# Altium schematic symbol library RUMBA_library.SCHLIB: 64 symbols
Pins are listed as number, name and electrical type; pins without a type are passive.

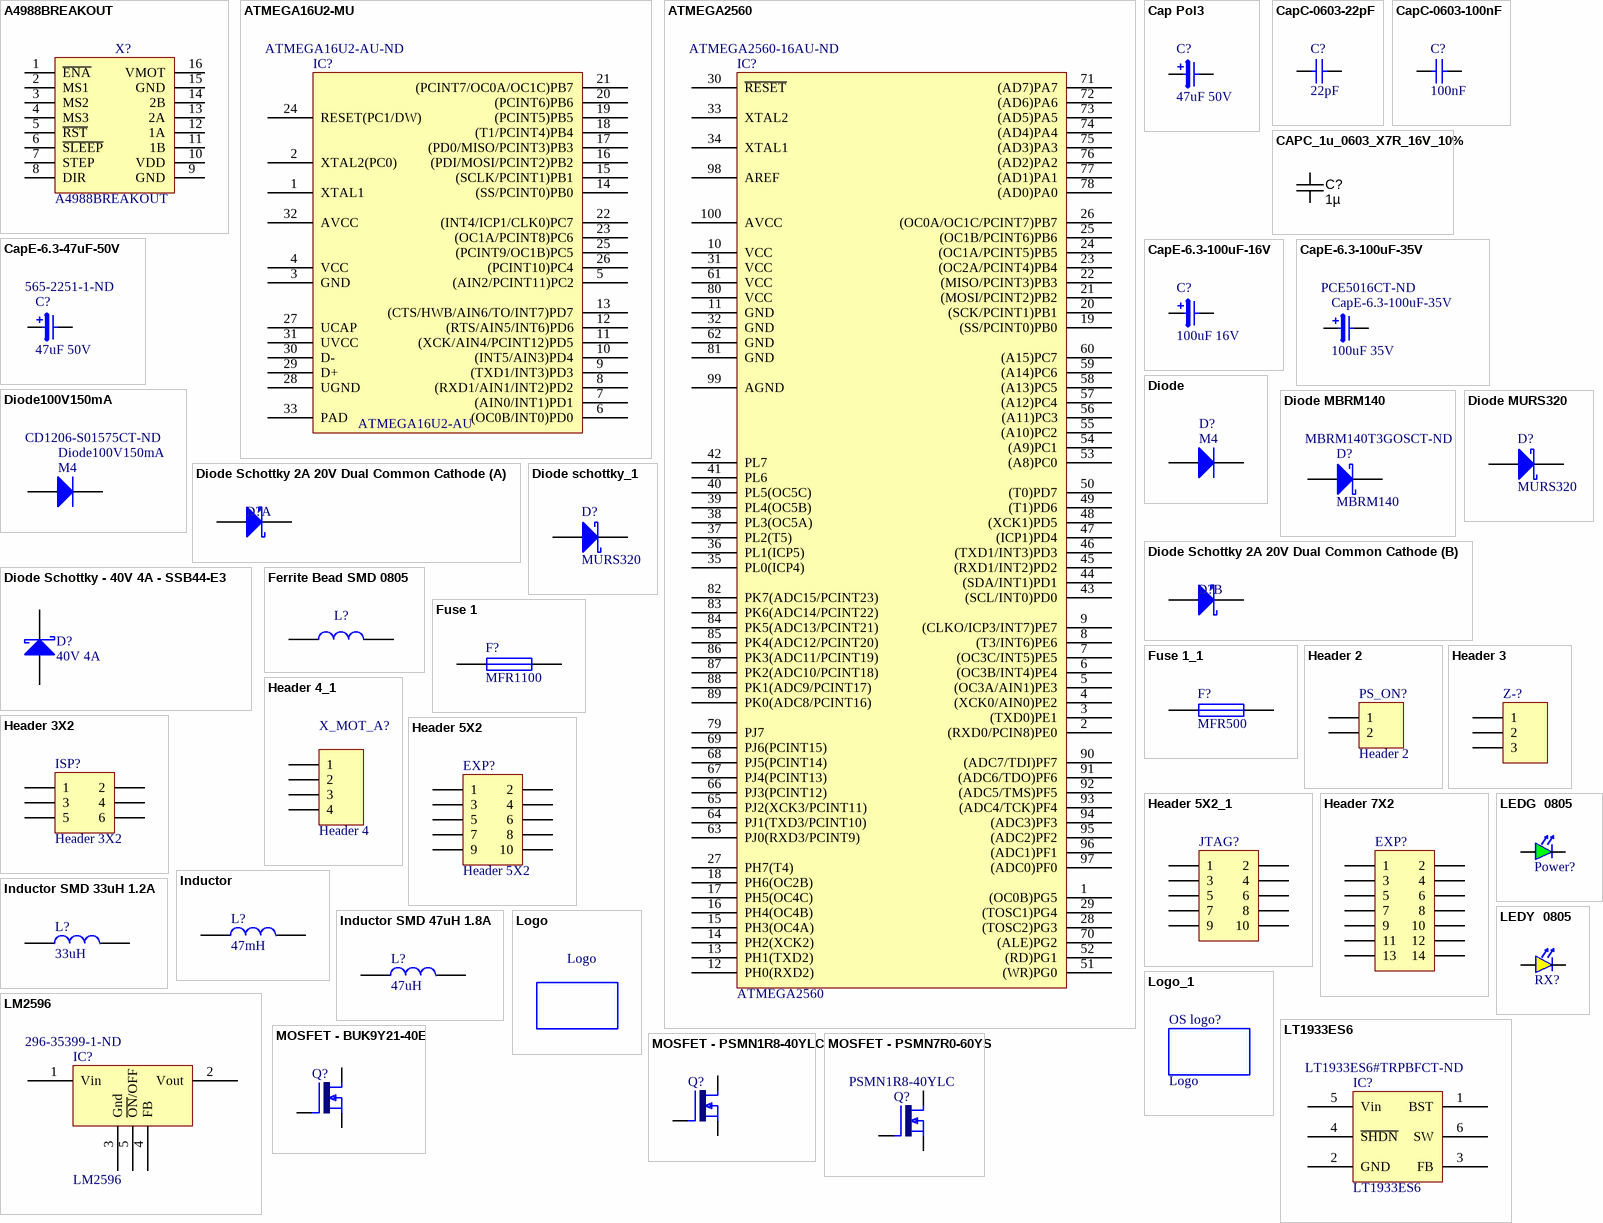
[diagram p0: symbols A4988BREAKOUT to MOSFET - PSMN7R0-60YS]

## A4988BREAKOUT
designator X?
Supplier 1: Digi-Key; Supplier Part Number 1: S7006-ND
footprint A4988BREAKOUT
pins: 1 ~{ENA}, 2 MS1, 3 MS2, 4 MS3, 5 ~{RST}, 6 ~{SLEEP}, 7 STEP, 8 DIR, 9 GND, 10 VDD, 11 1B, 12 1A, 13 2A, 14 2B, 15 GND, 16 VMOT

## ATMEGA16U2-MU
designator IC?, comment ATMEGA16U2-AU  Supplier Part Number 1: ATMEGA16U2-AU-ND
High Performance, Low Power USB2.0 AVR® 8-Bit Microcontroller; Supplier 1: Digi-Key
footprint TQFP32N (TQFP, 32-Leads, Body 9.0x9.0mm (max), Pitch 0.80mm, IPC Medium Density)
pins: 1 XTAL1, 2 XTAL2(PC0), 3 GND, 4 VCC, 5 (AIN2/PCINT11)PC2, 6 (OC0B/INT0)PD0, 7 (AIN0/INT1)PD1, 8 (RXD1/AIN1/INT2)PD2, 9 (TXD1/INT3)PD3, 10 (INT5/AIN3)PD4, 11 (XCK/AIN4/PCINT12)PD5, 12 (RTS/AIN5/INT6)PD6, 13 (CTS/HWB/AIN6/TO/INT7)PD7, 14 (SS/PCINT0)PB0, 15 (SCLK/PCINT1)PB1, 16 (PDI/MOSI/PCINT2)PB2, 17 (PD0/MISO/PCINT3)PB3, 18 (T1/PCINT4)PB4, 19 (PCINT5)PB5, 20 (PCINT6)PB6, 21 (PCINT7/OC0A/OC1C)PB7, 22 (INT4/ICP1/CLK0)PC7, 23 (OC1A/PCINT8)PC6, 24 RESET(PC1/DW), 25 (PCINT9/OC1B)PC5, 26 (PCINT10)PC4, 27 UCAP, 28 UGND, 29 D+, 30 D-, 31 UVCC, 32 AVCC, 33 PAD

## ATMEGA2560
designator IC?  Supplier Part Number 1: ATMEGA2560-16AU-ND
The high-performance, low-power Atmel 8-bit AVR RISC-based microcontroller; Supplier 1: Digi-Key
footprint TQFP100N (TQFP, 100-Leads, Body 16.3x16.3mm (max), Pitch 0.50mm, IPC Medium Density)
pins: 1 (OC0B)PG5, 2 (RXD0/PCIN8)PE0, 3 (TXD0)PE1, 4 (XCK0/AIN0)PE2, 5 (OC3A/AIN1)PE3, 6 (OC3B/INT4)PE4, 7 (OC3C/INT5)PE5, 8 (T3/INT6)PE6, 9 (CLKO/ICP3/INT7)PE7, 10 VCC, 11 GND, 12 PH0(RXD2), 13 PH1(TXD2), 14 PH2(XCK2), 15 PH3(OC4A), 16 PH4(OC4B), 17 PH5(OC4C), 18 PH6(OC2B), 19 (SS/PCINT0)PB0, 20 (SCK/PCINT1)PB1, 21 (MOSI/PCINT2)PB2, 22 (MISO/PCINT3)PB3, 23 (OC2A/PCINT4)PB4, 24 (OC1A/PCINT5)PB5, 25 (OC1B/PCINT6)PB6, 26 (OC0A/OC1C/PCINT7)PB7, 27 PH7(T4), 28 (TOSC2)PG3, 29 (TOSC1)PG4, 30 ~{RESET}, 31 VCC, 32 GND, 33 XTAL2, 34 XTAL1, 35 PL0(ICP4), 36 PL1(ICP5), 37 PL2(T5), 38 PL3(OC5A), 39 PL4(OC5B), 40 PL5(OC5C), 41 PL6, 42 PL7, 43 (SCL/INT0)PD0, 44 (SDA/INT1)PD1, 45 (RXD1/INT2)PD2, 46 (TXD1/INT3)PD3, 47 (ICP1)PD4, 48 (XCK1)PD5, 49 (T1)PD6, 50 (T0)PD7, 51 (WR)PG0, 52 (RD)PG1, 53 (A8)PC0, 54 (A9)PC1, 55 (A10)PC2, 56 (A11)PC3, 57 (A12)PC4, 58 (A13)PC5, 59 (A14)PC6, 60 (A15)PC7, 61 VCC, 62 GND, 63 PJ0(RXD3/PCINT9), 64 PJ1(TXD3/PCINT10), 65 PJ2(XCK3/PCINT11), 66 PJ3(PCINT12), 67 PJ4(PCINT13), 68 PJ5(PCINT14), 69 PJ6(PCINT15), 70 (ALE)PG2, 71 (AD7)PA7, 72 (AD6)PA6, 73 (AD5)PA5, 74 (AD4)PA4, 75 (AD3)PA3, 76 (AD2)PA2, 77 (AD1)PA1, 78 (AD0)PA0, 79 PJ7, 80 VCC, 81 GND, 82 PK7(ADC15/PCINT23), 83 PK6(ADC14/PCINT22), 84 PK5(ADC13/PCINT21), 85 PK4(ADC12/PCINT20), 86 PK3(ADC11/PCINT19), 87 PK2(ADC10/PCINT18), 88 PK1(ADC9/PCINT17), 89 PK0(ADC8/PCINT16), 90 (ADC7/TDI)PF7, 91 (ADC6/TDO)PF6, 92 (ADC5/TMS)PF5, 93 (ADC4/TCK)PF4, 94 (ADC3)PF3, 95 (ADC2)PF2, 96 (ADC1)PF1, 97 (ADC0)PF0, 98 AREF, 99 AGND, 100 AVCC

## Cap Pol3
designator C?  value 47uF 50V  (hidden comment: Cap Pol3)
Polarized Capacitor (Surface Mount); Published: 8-Jun-2000; Revision: July-2002: Re-released for DXP Platform.; Publisher: Altium Limited
footprint CC2012-0805 (Chip Capacitor; Body 2.0 x 1.2 mm (LxW typ))
simulation model CAP (Capacitor)
signal-integrity model Cap Pol
footprint CC4532-1812
footprint CC4564-1825
footprint CC5750-2220
footprint CC5664-2225
footprint CAP EL PANASONIC
pins: 1, 2

## CapC-0603-22pF
designator C?  value 22pF  (hidden comment: CapC-0603-22pF)
Capacitor (Semiconductor SIM Model); Published: 8-Jun-2000; Revision: July-2002: Re-released for DXP Platform.; Publisher: Altium Limited; Supplier 1: Digi-Key; Supplier Part Number 1: 478-6204-1-ND
simulation model CAP (Semiconductor Capacitor)
signal-integrity model Cap Semi
footprint Cap 1608-0603
footprint Cap2012-0805
footprint Cap3216-1206
footprint Cap3225-1210
pins: 1, 2

## CapC-0603-100nF
designator C?  value 100nF  (hidden comment: CapC-0603-100nF)
Capacitor (Semiconductor SIM Model); Published: 8-Jun-2000; Revision: July-2002: Re-released for DXP Platform.; Publisher: Altium Limited; Supplier 1: Digi-Key; Supplier Part Number 1: 311-1344-1-ND
simulation model CAP (Semiconductor Capacitor)
signal-integrity model Cap Semi
footprint Cap 1608-0603
footprint Cap2012-0805
footprint Cap3216-1206
footprint Cap3225-1210
pins: 1, 2

## CAPC_1u_0603_X7R_16V_10%
designator C?, comment value 1µ  (hidden comment: approved sub OK)
Capacitor SMD Cer 1uF 10% 16V X7R 0603; Manufacturer 1: TDK Corporation; Manufacturer Part Number 1: C1608X7R1C105K; Ratings: 16V; X7R; Material: ceramic; SCDType: spec; Package / Case: 0603 (1608 metric); Tolerance: ±10%; Supplier 1: Digi-Key; Supplier Part Number 1: 445-1604-1-ND; ComponentLink1URL: http://product.tdk.com/capacitor/mlcc/en/documents/mlcc_commercial_general_en.pdf; ComponentLink1Description: http://product.tdk.com/capacitor/mlcc/en/documents/mlcc_commercial_general_en.pdf
footprint CAPC1608X90N (Chip Capacitor, Body 1.6x0.8mm, 0603, IPC Medium Density)
footprint Cap 1608-0603
pins: 1, 2

## CapE-6.3-47uF-50V
designator C?  value 47uF 50V  Supplier Part Number 1: 565-2251-1-ND  (hidden comment: CapE-6.3-47uF-50V)
Polarized Capacitor (Surface Mount); Published: 8-Jun-2000; Revision: July-2002: Re-released for DXP Platform.; Publisher: Altium Limited; Supplier 1: Digi-Key
footprint CC2012-0805 (Chip Capacitor; Body 2.0 x 1.2 mm (LxW typ))
simulation model CAP (Capacitor)
signal-integrity model Cap Pol
footprint CC4532-1812
footprint CC4564-1825
footprint CC5750-2220
footprint CC5664-2225
footprint CAP EL PANASONIC
pins: 1, 2

## CapE-6.3-100uF-16V
designator C?  value 100uF 16V  (hidden comment: CapE-6.3-100uF-16V)
Polarized Capacitor (Surface Mount); Published: 8-Jun-2000; Revision: July-2002: Re-released for DXP Platform.; Publisher: Altium Limited; Supplier 1: Digi-Key; Supplier Part Number 1: 565-2204-1-ND
footprint CC2012-0805 (Chip Capacitor; Body 2.0 x 1.2 mm (LxW typ))
simulation model CAP (Capacitor)
signal-integrity model Cap Pol
footprint CC4532-1812
footprint CC4564-1825
footprint CC5750-2220
footprint CC5664-2225
footprint CAP EL PANASONIC
pins: 1, 2

## CapE-6.3-100uF-35V
designator CapE-6.3-100uF-35V  value 100uF 35V  Supplier Part Number 1: PCE5016CT-ND  (hidden comment: CapE-6.3-100uF-35V)
Polarized Capacitor (Surface Mount); Published: 8-Jun-2000; Revision: July-2002: Re-released for DXP Platform.; Publisher: Altium Limited; Supplier 1: Digi-Key
footprint CC2012-0805 (Chip Capacitor; Body 2.0 x 1.2 mm (LxW typ))
simulation model CAP (Capacitor)
signal-integrity model Cap Pol
footprint CC4532-1812
footprint CC4564-1825
footprint CC5750-2220
footprint CC5664-2225
footprint CAP EL PANASONIC
pins: 1, 2

## Diode
designator D?, comment M4
Default Diode; Code - JEDEC: DO-214-AB; Published: 8-Jun-2000; Revision: July-2002: Re-released for DXP Platform.; Publisher: Altium Limited; Supplier 1: Digi-Key; Supplier Part Number 1: S1GFSCT-ND
footprint DSO-C2/X3.3 (DO-214-AB/SMC; 2 C-Bend Leads; Body 7.9 x 5.9 mm, inc. leads (LxW))
simulation model DIODE (Diode)
signal-integrity model Diode
footprint DIODA10M
footprint 1N4148 SMD (MELF Diode, 2-Leads, Body 3.5x1.7mm, IPC Medium Density)
footprint Diode SMB
footprint 1n4007 SMD
pins: 1 A, 2 K

## Diode100V150mA
designator Diode100V150mA, comment M4  Supplier Part Number 1: CD1206-S01575CT-ND
Default Diode; Code - JEDEC: DO-214-AB; Published: 8-Jun-2000; Revision: July-2002: Re-released for DXP Platform.; Publisher: Altium Limited; Supplier 1: Digi-Key
footprint DSO-C2/X3.3 (DO-214-AB/SMC; 2 C-Bend Leads; Body 7.9 x 5.9 mm, inc. leads (LxW))
simulation model DIODE (Diode)
signal-integrity model Diode
footprint DIODA10M
footprint 1N4148 SMD (MELF Diode, 2-Leads, Body 3.5x1.7mm, IPC Medium Density)
footprint Diode SMB
footprint 1n4007 SMD
pins: 1 A, 2 K

## Diode MBRM140
designator D?  value MBRM140  Supplier Part Number 1: MBRM140T3GOSCT-ND  (hidden comment: Diode MBRM140)
Default Diode; Code - JEDEC: DO-214-AB; Published: 8-Jun-2000; Revision: July-2002: Re-released for DXP Platform.; Publisher: Altium Limited; Supplier 1: Digi-Key
simulation model DIODE (Diode)
signal-integrity model Diode
footprint DIODA10M
footprint US1J
footprint MBRM140
pins: 1 A, 2 K

## Diode MURS320
designator D?  value MURS320  (hidden comment: Diode MURS320)
Default Diode; Code - JEDEC: DO-214-AB; Published: 8-Jun-2000; Revision: July-2002: Re-released for DXP Platform.; Publisher: Altium Limited; Supplier 1: Digi-Key; Supplier Part Number 1: MURS320-13FDICT-ND
simulation model DIODE (Diode)
signal-integrity model Diode
footprint DIODA10M
footprint US1J
footprint MBRM140
pins: 1 A, 2 K

## Diode Schottky 2A 20V Dual Common Cathode
designator D?  (value not drawn)
Default Diode; Code - JEDEC: DO-214-AB; VALUE: PMEG2020CPA,115; Published: 8-Jun-2000; Revision: July-2002: Re-released for DXP Platform.; Publisher: Altium Limited; Supplier 1: Digi-Key; Supplier Part Number 1: 1727-5194-1-ND
simulation model DIODE (Diode)
signal-integrity model Diode
footprint SOT1061
part A pins: 1 A, 3 K
part B pins: 2 A, 3 K

## Diode Schottky - 40V 4A - SSB44-E3
designator D?, comment value 40V 4A  (hidden comment: Diode SSB44-E3)
Schottky Diode; Code - JEDEC: DO-214-AA; Note: Approved sub OK; Published: 8-Jun-2000; Revision: July-2002: Re-released for DXP Platform.; Publisher: Altium Limited; Supplier 1: Digi-Key; Supplier Part Number 1: SSB44-E3/52TGICT-ND
footprint DO-214AA (JEDEC DO214 variation AA. SMB)
pins: A, K

## Diode schottky_1
designator D?, comment MURS320
Default Diode; Code - JEDEC: DO-214-AB; Published: 8-Jun-2000; Revision: July-2002: Re-released for DXP Platform.; Publisher: Altium Limited
simulation model DIODE (Diode)
signal-integrity model Diode
footprint DIODA10M
footprint MURS320 (Molded Diode, 2-Leads, Body 6.8x5.8mm, IPC Medium Density)
footprint MBRM140
pins: 1 A, 2 K

## Ferrite Bead SMD 0805
designator L?  (value not drawn)
MagneticCore Inductor with Winding Polarity Marking; Value: WE-CBF_0805 (WE-CBF); Published: 24-Mar-1999; Revision: July-2002: Re-released for DXP Platform.; Publisher: Altium Limited; Supplier 1: Digi-Key; Supplier Part Number 1: 490-1054-1-ND
footprint 0603 Chip Ferrite Bead (Chip Ferrite Bead, 2-Leads, Body 1.6x0.8mm, IPC Medium Density)
signal-integrity model Inductor Iron Dot
footprint res 2518-1007 (Chip Inductor, 2-Leads, Body 2.5x1.8mm, IPC Medium Density)
footprint Res 2012-0805
pins: 1, 2

## Fuse 1
designator F?, comment MFR1100
Fuse; Published: 8-Jun-2000; LatestRevisionDate: 17-Jul-2002; LatestRevisionNote: Re-released for DXP Platform.; PackageReference: PIN-W2/E2.8; Publisher: Altium Limited
footprint MFR500
simulation model FUSE (Spice Subcircuit)
pins: 1, 2

## Fuse 1_1
designator F?, comment MFR500
Fuse; Published: 8-Jun-2000; LatestRevisionDate: 17-Jul-2002; LatestRevisionNote: Re-released for DXP Platform.; PackageReference: PIN-W2/E2.8; Publisher: Altium Limited
footprint SMD fuse
simulation model FUSE (Spice Subcircuit)
footprint MFR500
pins: 1, 2

## Header 2
designator PS_ON?
Header, 2-Pin; LatestRevisionDate: 17-Jul-2002; LatestRevisionNote: Re-released for DXP Platform.; Publisher: Altium Limited; Supplier 1: Digi-Key; Supplier Part Number 1: 3M9447-ND
footprint HDR1X2 (Connector; Header; 2 Position)
signal-integrity model Connector
pins: 1, 2

## Header 3
designator Z-?  (value not drawn)
Header, 3-Pin; LatestRevisionDate: 17-Jul-2002; LatestRevisionNote: Re-released for DXP Platform.; Publisher: Altium Limited; Supplier 1: Digi-Key; Supplier Part Number 1: 3M9448-ND
footprint HDR1X3 (Connector; Header; 3 Position)
signal-integrity model Connector
pins: 1, 2, 3

## Header 3X2
designator ISP?
Header, 3-Pin, Dual row; LatestRevisionDate: 17-Jul-2002; LatestRevisionNote: Re-released for DXP Platform.; Publisher: Altium Limited; Supplier 1: Digi-Key; Supplier Part Number 1: 3M9459-ND
footprint HDR2X3 (Connector; Header; 3x2 Position)
signal-integrity model Connector
pins: 1, 2, 3, 4, 5, 6

## Header 4_1
designator X_MOT_A?, comment Header 4
Header, 4-Pin; LatestRevisionDate: 17-Jul-2002; LatestRevisionNote: Re-released for DXP Platform.; Publisher: Altium Limited; Supplier 1: Digi-Key; Supplier Part Number 1: 3M9449-ND
footprint HDR1X4 (Connector; Header; 4 Position)
signal-integrity model Connector
pins: 1, 2, 3, 4

## Header 5X2
designator EXP?
Header, 5-Pin, Dual row; LatestRevisionDate: 17-Jul-2002; LatestRevisionNote: Re-released for DXP Platform.; Publisher: Altium Limited; Supplier 1: Digi-Key; Supplier Part Number 1: 3M9460-ND
footprint HDR2X5 (Connector; Header; 5x2 Position)
signal-integrity model Connector
footprint HDR2X5_exp (Connector; Header; 5x2 Position)
footprint HDR2X5_exp Iner only\ (Connector; Header; 5x2 Position)
pins: 1, 2, 3, 4, 5, 6, 7, 8, 9, 10

## Header 5X2_1
designator JTAG?  (value not drawn)
Header, 5-Pin, Dual row; LatestRevisionDate: 17-Jul-2002; LatestRevisionNote: Re-released for DXP Platform.; Publisher: Altium Limited; Supplier 1: Digi-Key; Supplier Part Number 1: 3M9460-ND
footprint HDR2X5 (Connector; Header; 5x2 Position)
signal-integrity model Connector
pins: 1, 2, 3, 4, 5, 6, 7, 8, 9, 10

## Header 7X2
designator EXP?  (value not drawn)
Header, 7-Pin, Dual row; LatestRevisionDate: 17-Jul-2002; LatestRevisionNote: Re-released for DXP Platform.; Publisher: Altium Limited; Supplier 1: Digi-Key; Supplier Part Number 1: 3M15450-ND
footprint HDR2X7 (Connector; Header; 7x2 Position)
signal-integrity model Connector
pins: 1, 2, 3, 4, 5, 6, 7, 8, 9, 10, 11, 12, 13, 14

## Inductor
designator L?  value 47mH  (hidden comment: Inductor)
MagneticCore Inductor with Winding Polarity Marking; Published: 24-Mar-1999; Revision: July-2002: Re-released for DXP Platform.; Publisher: Altium Limited
footprint 0603 Chip Ferrite Bead (Chip Ferrite Bead, 2-Leads, Body 1.6x0.8mm, IPC Medium Density)
signal-integrity model Inductor Iron Dot
footprint DO3316P (SMT Power Inductors)
footprint inductor_mss6122d
pins: 1, 2

## Inductor SMD 33uH 1.2A
designator L?  value 33uH  (hidden comment: Inductor SMD 33uH 1.2A)
MagneticCore Inductor with Winding Polarity Marking; Published: 24-Mar-1999; Revision: July-2002: Re-released for DXP Platform.; Publisher: Altium Limited; Supplier 1: Farnell; Supplier Part Number 1: 2288635
footprint 0603 Chip Ferrite Bead (Chip Ferrite Bead, 2-Leads, Body 1.6x0.8mm, IPC Medium Density)
signal-integrity model Inductor Iron Dot
footprint res 2518-1007 (Chip Inductor, 2-Leads, Body 2.5x1.8mm, IPC Medium Density)
footprint inductor_mss6122d
footprint DO3316P
pins: 1, 2

## Inductor SMD 47uH 1.8A
designator L?  value 47uH  (hidden comment: Inductor SMD 47uH 1.8A)
MagneticCore Inductor with Winding Polarity Marking; Published: 24-Mar-1999; Revision: July-2002: Re-released for DXP Platform.; Publisher: Altium Limited; Supplier 1: Farnell; Supplier Part Number 1: 2287252
footprint 0603 Chip Ferrite Bead (Chip Ferrite Bead, 2-Leads, Body 1.6x0.8mm, IPC Medium Density)
signal-integrity model Inductor Iron Dot
footprint res 2518-1007 (Chip Inductor, 2-Leads, Body 2.5x1.8mm, IPC Medium Density)
footprint inductor_mss6122d
footprint DO3316P
pins: 1, 2

## LEDG  0805
designator Power?, comment GREEN  (value not drawn)
Hyper-Bright Low Current LED OSRAM; Supplier 1: Digi-Key; Supplier Part Number 1: 475-1410-1-ND
footprint LED 0805
pins: 1 A, 2 K

## LEDY  0805
designator RX?, comment YELLOW  (value not drawn)
Hyper-Bright Low Current LED OSRAM; Supplier 1: Digi-Key; Supplier Part Number 1: 475-2560-1-ND
footprint LED 0805
pins: 1 A, 2 K

## LM2596
designator IC?  Supplier Part Number 1: 296-35399-1-ND
3.0 A, Step-Down Switching  Regulator; Supplier 1: Digi-Key
footprint TO-263 (D2-PAK, 6-Pads, Body 10.4x8.9mm (max), IPC Medium Density)
pins: 1 Vin, 2 Vout, 3 Gnd, 4 FB, 5 ~{ON}/OFF, 6 HS hidden to GND

## Logo
designator Logo?
footprint TAURINO LOGO HIGH

## Logo_1
designator OS logo?, comment Logo
footprint OS LOGO TOP

## LT1933ES6
designator IC?  Supplier Part Number 1: LT1933ES6#TRPBFCT-ND
600mA, 500kHz Step-Down  Switching Regulator in  SOT-23; Supplier 1: Digi-Key
footprint SOT23-6N (SOT23, 6-Leads, Body 3.0x3.0mm (max), Pitch 0.95mm, IPC Medium Density)
pins: 1 BST, 2 GND, 3 FB, 4 ~{SHDN}, 5 Vin, 6 SW

## MOSFET - BUK9Y21-40E
designator Q?, comment BUK9Y21-40E  (value not drawn)
Supplier 1: Digi-Key; Supplier Part Number 1: 1727-1123-1-ND
footprint LFPACK
pins: 1 G, 2 D, 3 S

## MOSFET - PSMN1R8-40YLC
designator Q?, comment PSMN1R8-40YLC  (value not drawn)
Supplier 1: Digi-Key; Supplier Part Number 1: 1727-1052-1-ND
footprint TO220BV (Molded Package)
footprint LFPACK
pins: 1 G, 2 D, 3 S

## MOSFET - PSMN7R0-60YS
designator Q?, comment PSMN1R8-40YLC
Supplier 1: Digi-Key; Supplier Part Number 1: 568-10156-1-ND
footprint TO220BV (Molded Package)
footprint LFPACK
pins: 1 G, 2 D, 3 S

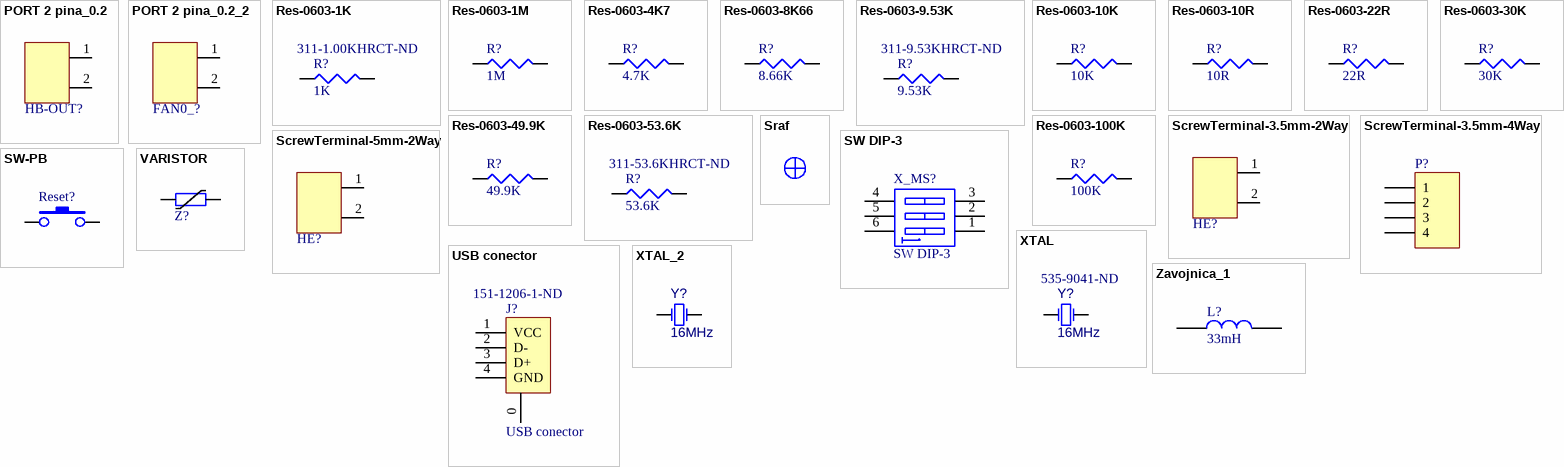
[diagram p1: symbols PORT 2 pina_0.2 to Zavojnica_1]

## PORT 2 pina_0.2
designator HB-OUT?  (value not drawn)
footprint TERM2 5mm
pins: 1 4 (power), 2 (power)

## PORT 2 pina_0.2_2
designator FAN0_?  (value not drawn)
Supplier 1: Digi-Key; Supplier Part Number 1: 3M9447-ND
footprint HDR1X2 (Connector; Header; 2 Position)
pins: 1 4 (power), 2 (power)

## Res-0603-1K
designator R?  value 1K  Supplier Part Number 1: 311-1.00KHRCT-ND  (hidden comment: Res-0603-1K)
Resistor; Published: 8-Jun-2000; Revision: July-2002: Re-released for DXP Platform.; Publisher: Altium Limited; Supplier 1: Digi-Key
simulation model RESISTOR (Resistor)
signal-integrity model Res
footprint Res 2012-0805
footprint Res 3216-1206
footprint Res 3225-1210
footprint Res 5025-2010
footprint RES 1608-0603
pins: 1, 2
1 alternate drawing of the same symbol

## Res-0603-1M
designator R?  value 1M  (hidden comment: Res-0603-1M)
Resistor; Published: 8-Jun-2000; Revision: July-2002: Re-released for DXP Platform.; Publisher: Altium Limited; Supplier 1: Digi-Key; Supplier Part Number 1: 311-1.00MHRDKR-ND
simulation model RESISTOR (Resistor)
signal-integrity model Res
footprint Res 2012-0805
footprint Res 3216-1206
footprint Res 3225-1210
footprint Res 5025-2010
footprint RES 1608-0603
pins: 1, 2
1 alternate drawing of the same symbol

## Res-0603-4K7
designator R?  value 4.7K  (hidden comment: Res-0603-4K7)
Resistor; Published: 8-Jun-2000; Revision: July-2002: Re-released for DXP Platform.; Publisher: Altium Limited; Supplier 1: Digi-Key; Supplier Part Number 1: 311-4.7KGRCT-ND
simulation model RESISTOR (Resistor)
signal-integrity model Res
footprint Res 2012-0805
footprint Res 3216-1206
footprint Res 3225-1210
footprint Res 5025-2010
footprint RES 1608-0603
pins: 1, 2
1 alternate drawing of the same symbol

## Res-0603-8K66
designator R?  value 8.66K  (hidden comment: Res-0603-8K66)
Resistor; Published: 8-Jun-2000; Revision: July-2002: Re-released for DXP Platform.; Publisher: Altium Limited; Supplier 1: Digi-Key; Supplier Part Number 1: 311-8.66KHRCT-ND
simulation model RESISTOR (Resistor)
signal-integrity model Res
footprint Res 2012-0805
footprint Res 3216-1206
footprint Res 3225-1210
footprint Res 5025-2010
footprint RES 1608-0603
pins: 1, 2
1 alternate drawing of the same symbol

## Res-0603-9.53K
designator R?  value 9.53K  Supplier Part Number 1: 311-9.53KHRCT-ND  (hidden comment: Res-0603-9.53K)
Resistor; Published: 8-Jun-2000; Revision: July-2002: Re-released for DXP Platform.; Publisher: Altium Limited; Supplier 1: Digi-Key
simulation model RESISTOR (Resistor)
signal-integrity model Res
footprint Res 2012-0805
footprint Res 3216-1206
footprint Res 3225-1210
footprint Res 5025-2010
footprint RES 1608-0603
pins: 1, 2
1 alternate drawing of the same symbol

## Res-0603-10K
designator R?  value 10K  (hidden comment: Res-0603-10K)
Resistor; Published: 8-Jun-2000; Revision: July-2002: Re-released for DXP Platform.; Publisher: Altium Limited; Supplier 1: Digi-Key; Supplier Part Number 1: 311-10.0KHRCT-ND
simulation model RESISTOR (Resistor)
signal-integrity model Res
footprint Res 2012-0805
footprint Res 3216-1206
footprint Res 3225-1210
footprint Res 5025-2010
footprint RES 1608-0603
pins: 1, 2
1 alternate drawing of the same symbol

## Res-0603-10R
designator R?  value 10R  (hidden comment: Res-0603-10R)
Resistor; Published: 8-Jun-2000; Revision: July-2002: Re-released for DXP Platform.; Publisher: Altium Limited; Supplier 1: Digi-Key; Supplier Part Number 1: 311-10.0HRCT-ND
simulation model RESISTOR (Resistor)
signal-integrity model Res
footprint Res 2012-0805
footprint Res 3216-1206
footprint Res 3225-1210
footprint Res 5025-2010
footprint RES 1608-0603
pins: 1, 2
1 alternate drawing of the same symbol

## Res-0603-22R
designator R?  value 22R  (hidden comment: Res-0603-22R)
Resistor; Published: 8-Jun-2000; Revision: July-2002: Re-released for DXP Platform.; Publisher: Altium Limited; Supplier 1: Digi-Key; Supplier Part Number 1: 311-22.0HRCT-ND
simulation model RESISTOR (Resistor)
signal-integrity model Res
footprint Res 2012-0805
footprint Res 3216-1206
footprint Res 3225-1210
footprint Res 5025-2010
footprint RES 1608-0603
pins: 1, 2
1 alternate drawing of the same symbol

## Res-0603-30K
designator R?  value 30K  (hidden comment: Res-0603-30K)
Resistor; Published: 8-Jun-2000; Revision: July-2002: Re-released for DXP Platform.; Publisher: Altium Limited; Supplier 1: Digi-Key; Supplier Part Number 1: 311-30.0KHRCT-ND
simulation model RESISTOR (Resistor)
signal-integrity model Res
footprint Res 2012-0805
footprint Res 3216-1206
footprint Res 3225-1210
footprint Res 5025-2010
footprint RES 1608-0603
pins: 1, 2
1 alternate drawing of the same symbol

## Res-0603-49.9K
designator R?  value 49.9K  (hidden comment: Res-0603-49.9K)
Resistor; Published: 8-Jun-2000; Revision: July-2002: Re-released for DXP Platform.; Publisher: Altium Limited; Supplier 1: Digi-Key; Supplier Part Number 1: 311-49.9KHRCT-ND
simulation model RESISTOR (Resistor)
signal-integrity model Res
footprint Res 2012-0805
footprint Res 3216-1206
footprint Res 3225-1210
footprint Res 5025-2010
footprint RES 1608-0603
pins: 1, 2
1 alternate drawing of the same symbol

## Res-0603-53.6K
designator R?  value 53.6K  Supplier Part Number 1: 311-53.6KHRCT-ND  (hidden comment: Res-0603-53.6K)
Resistor; Published: 8-Jun-2000; Revision: July-2002: Re-released for DXP Platform.; Publisher: Altium Limited; Supplier 1: Digi-Key
simulation model RESISTOR (Resistor)
signal-integrity model Res
footprint Res 2012-0805
footprint Res 3216-1206
footprint Res 3225-1210
footprint Res 5025-2010
footprint RES 1608-0603
pins: 1, 2
1 alternate drawing of the same symbol

## Res-0603-100K
designator R?  value 100K  (hidden comment: Res-0603-100K)
Resistor; Published: 8-Jun-2000; Revision: July-2002: Re-released for DXP Platform.; Publisher: Altium Limited; Supplier 1: Digi-Key; Supplier Part Number 1: 311-100KHRCT-ND
simulation model RESISTOR (Resistor)
signal-integrity model Res
footprint Res 2012-0805
footprint Res 3216-1206
footprint Res 3225-1210
footprint Res 5025-2010
footprint RES 1608-0603
pins: 1, 2
1 alternate drawing of the same symbol

## ScrewTerminal-3.5mm-2Way
designator HE?, comment Screw Terminal 3.5mm 2-Way  (value not drawn)
Supplier 1: Digi-Key; Supplier Part Number 1: 277-5719-ND
footprint TERM2 3.5mm
pins: 1 4 (power), 2 (power)

## ScrewTerminal-3.5mm-4Way
designator P?  (value not drawn)
Screw Terminal 3.5mm 4-Way; LatestRevisionDate: 17-Jul-2002; LatestRevisionNote: Re-released for DXP Platform.; Publisher: Altium Limited; Supplier 1: Digi-Key; Supplier Part Number 1: 277-5744-ND
footprint TERM4 3.5mm
signal-integrity model Connector
pins: 1, 2, 3, 4

## ScrewTerminal-5mm-2Way
designator HE?, comment Screw Terminal 5mm 2-Way  (value not drawn)
Supplier 1: Digi-Key; Supplier Part Number 1: 277-6405-ND
footprint TERM2 3.5mm
footprint TERM2 5MM
pins: 1 4 (power), 2 (power)

## Sraf
designator sc?  (value not drawn)
footprint Sraf 3mm - rupa 3.5
footprint Sraf 3mm - rupa 3.2

## SW DIP-3
designator X_MS?
DIP Switch; Published: 24-Mar-1999; Revision: July-2002: Re-released for DXP Platform.; Publisher: Altium Limited; Supplier 1: Digi-Key; Supplier Part Number 1: 732-3853-1-ND
footprint dipsw SO6
simulation model dpsw8 (Spice Subcircuit)
pins: 1 A1, 2 A2, 3 A3, 4 B3, 5 B2, 6 B1

## SW-PB
designator Reset?
Supplier 1: Digi-Key; Supplier Part Number 1: 679-2396-1-ND
footprint SW-PB
footprint SW_P8006
footprint SW-PB SMD 2pin
pins: 1, 2

## USB conector
designator J?  Supplier Part Number 1: 151-1206-1-ND
Supplier 1: Digi-Key
footprint USB_B
footprint USB_mini/SM0.8-6H5 (Connector; USB2.0, Type B, SM; 5 Position; Right Angle)
pins: 0, 1 VCC, 2 D-, 3 D+, 4 GND

## VARISTOR
designator Z?  (value not drawn)
VARISTOR_CN0603 (VARISTOR); value: CG0603MLC-05E; Supplier 1: Digi-Key; Supplier Part Number 1: CG0603MLC-05ECT-ND
footprint RES 1608-0603
pins: 1, 2

## XTAL
designator Y?, comment 16MHz  Supplier Part Number 1: 535-9041-ND
Crystal Oscillator; Manufacturer: Generic Components; Published: 08/06/2000; Publisher: Altium Hobart Technology Centre; Class: Oscillator; SubClass: Crystal Oscillator; Supplier 1: Digi-Key
footprint TXC-QSDG
simulation model XTAL (Spice Subcircuit)
footprint X-TAL
pins: 1 OSC1, 2 OSC2

## XTAL_2
designator Y?, comment 16MHz
Crystal Oscillator; Manufacturer: Generic Components; Published: 08/06/2000; Publisher: Altium Hobart Technology Centre; Class: Oscillator; SubClass: Crystal Oscillator; Supplier 1: Digi-Key; Supplier Part Number 1: SER3686CT-ND
footprint 3525 SMD Crystal
pins: 1 OSC1, 3 OSC2

## Zavojnica_1
designator L?, comment value 33mH  (hidden comment: Zavojnica)
MagneticCore Inductor with Winding Polarity Marking; Published: 24-Mar-1999; Revision: July-2002: Re-released for DXP Platform.; Publisher: Altium Limited
footprint 0603 Chip Ferrite Bead (Chip Ferrite Bead, 2-Leads, Body 1.6x0.8mm, IPC Medium Density)
signal-integrity model Inductor Iron Dot
footprint res 2518-1007 (Chip Inductor, 2-Leads, Body 2.5x1.8mm, IPC Medium Density)
footprint inductor_mss6122d
pins: 1, 2